# EAGLE library part ADM208E (library IC - Interface - DR,RX,TX)
Quad RS-232 Line Drivers/Receivers 24-Lead Standard Small Outline Package [SOIC_W] Wide Body (RW-28) ANALOG DEVICES
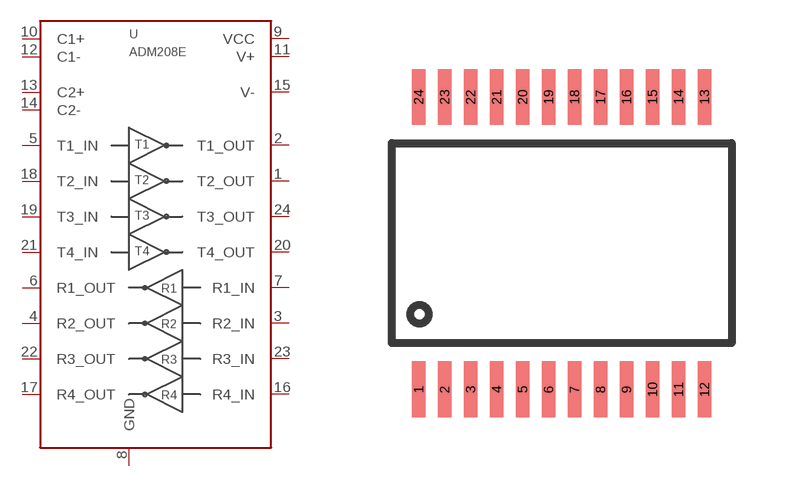
[diagram p0: symbol with the pads of SSOP24; footprint SSOP24]

Designator prefix U

## ADM208ERS-24  [SSOP24]
1  T2_OUT  out
2  T1_OUT  out
3  R2_IN  in
4  R2_OUT  out
5  T1_IN  in
6  R1_OUT  out
7  R1_IN  in
8  GND  pwr
9  VCC  pwr
10  C1+
11  V+
12  C1-
13  C2+
14  C2-
15  V-
16  R4_IN  in
17  R4_OUT  out
18  T2_IN  in
19  T3_IN  in
20  T4_OUT  out
21  T4_IN  in
22  R3_OUT  out
23  R3_IN  in
24  T3_OUT  out

## Footprint SSOP24 (pad centres in mm)
smd 0.348 x 1.397: 1 -3.575,-3.656; 2 -2.925,-3.656; 3 -2.275,-3.656; 4 -1.625,-3.656; 5 -0.975,-3.656; 6 -0.325,-3.656; 7 0.325,-3.656; 8 0.975,-3.656; 9 1.625,-3.656; 10 2.275,-3.656; 11 2.925,-3.656; 12 3.575,-3.656; 13 3.575,3.656; 14 2.925,3.656; 15 2.275,3.656; 16 1.625,3.656; 17 0.975,3.656; 18 0.325,3.656; 19 -0.325,3.656; 20 -0.975,3.656; 21 -1.625,3.656; 22 -2.275,3.656; 23 -2.925,3.656; 24 -3.575,3.656